# Altium footprint library LABLIB.PcbLib: 213 footprints (part 5 of 14)
Each footprint in its own frame and in the unit in brackets; x right, y up, seen from the top. Pads: shape width x height; smd on the part's side, far side on the other; paste and mask are expansions set on the pad; w line width, h text height; cw(c..) or ccw(c..) is an arc to the next point about the centre after c.
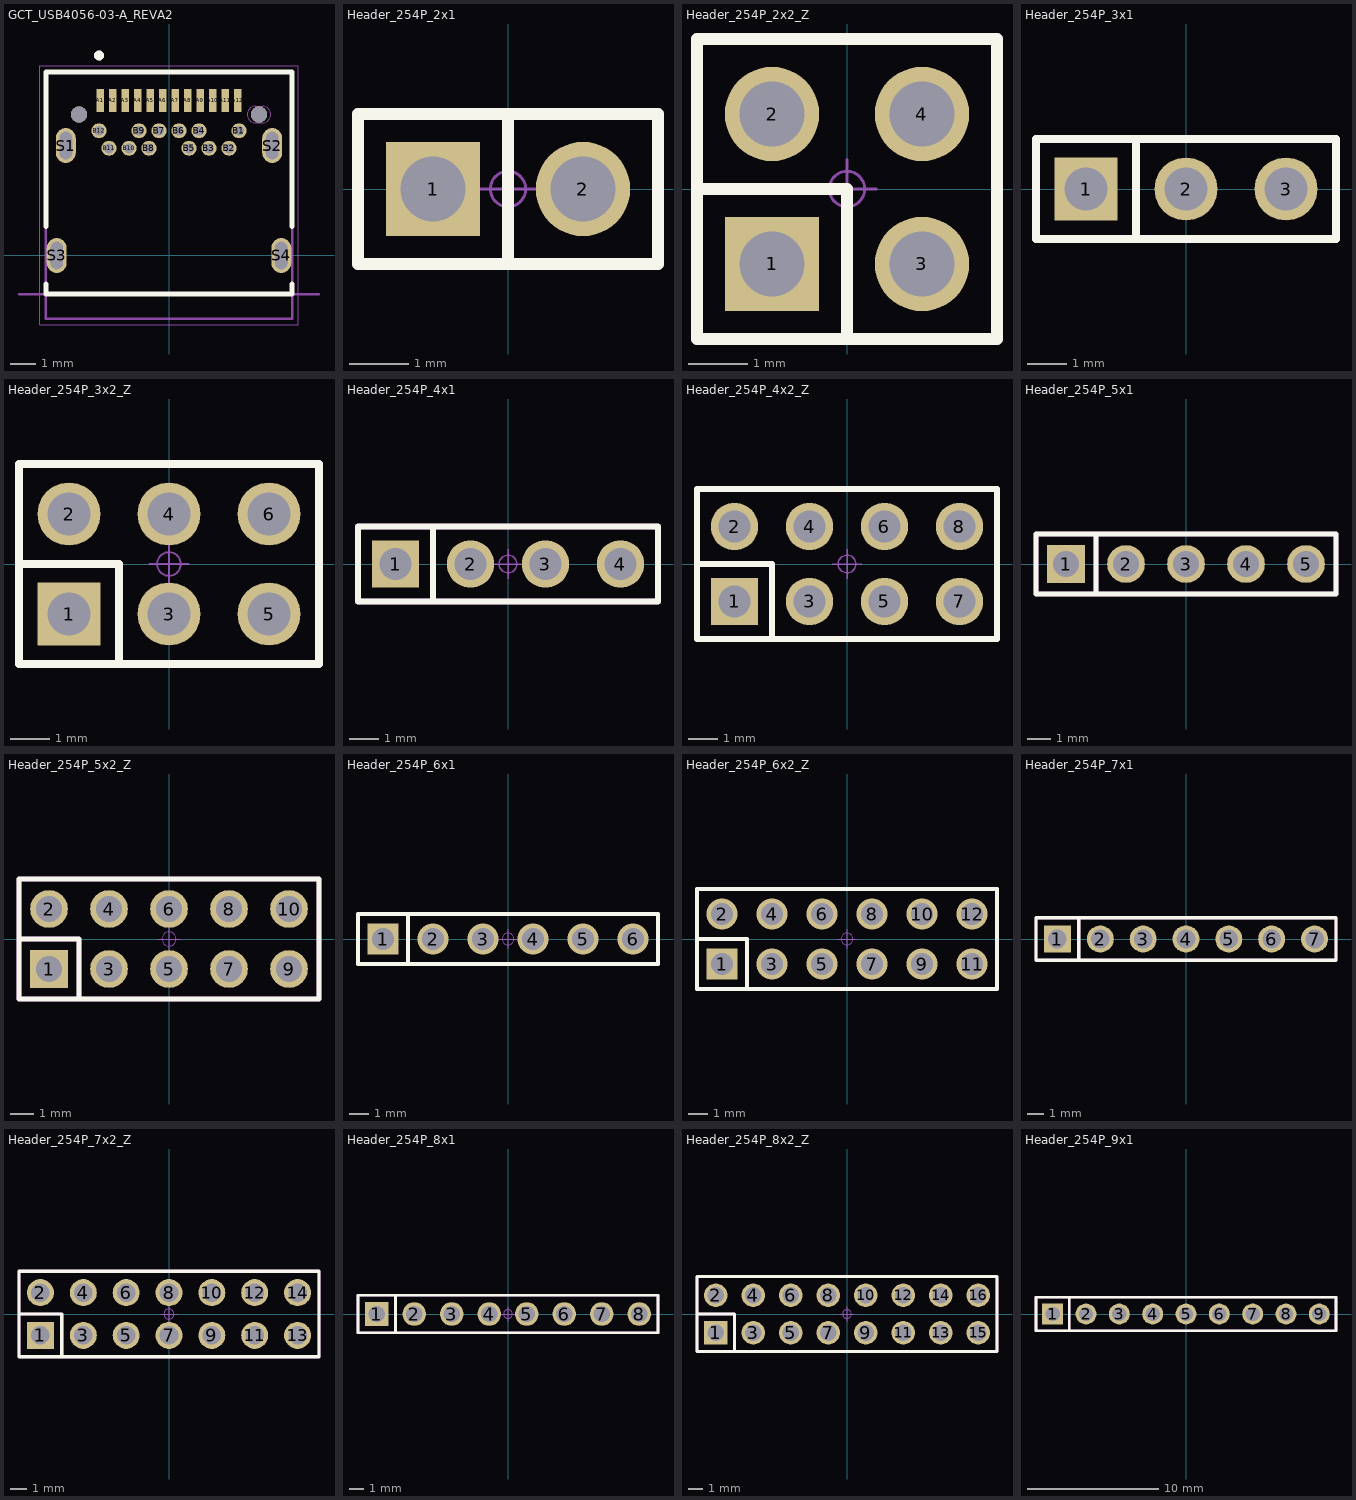
[diagram p4: the footprints below, top view; thin cyan lines are the x and y axes]

## GCT_USB4056-03-A_REVA2 [mm]
height 3.31
pads (30):
  rect 0.3x0.9 smd: A1(-2.75,6.2) A2(-2.25,6.2) A3(-1.75,6.2) A4(-1.25,6.2) A5(-0.75,6.2) A6(-0.25,6.2) A7(0.25,6.2) A8(0.75,6.2) A9(1.25,6.2) A10(1.75,6.2) A11(2.25,6.2) A12(2.75,6.2)
  round 0.6 hole 0.4: B1(2.8,4.99) B2(2.4,4.29) B3(1.6,4.29) B4(1.2,4.99) B5(0.8,4.29) B6(0.4,4.99) B7(-0.4,4.99) B8(-0.8,4.29) B9(-1.2,4.99) B10(-1.6,4.29) B11(-2.4,4.29) B12(-2.8,4.99)
  oval 0.8x1.4 hole 0.5 slot 1.1 at 90 deg: S1(-4.13,4.4) S2(4.13,4.4) S3(-4.49,0) S4(4.49,0)
  round 0.65 hole 0.65 unplated: ""(-3.6,5.64) ""(3.6,5.64)
Top Overlay:
  circle w0.2: c-2.8,8 r0.1
  lines w0.2: -4.925,-1.15 -4.925,-1.55 4.925,-1.55 4.925,-1.15 ; -4.925,1.15 -4.925,7.34 4.925,7.34 4.925,1.15
Top Solder:
  region: 3.772,6.064 3.794,6.063 3.816,6.06 3.838,6.056 3.86,6.051 3.881,6.044 3.902,6.037 3.923,6.028 3.943,6.019 3.962,6.008 3.981,5.996 4,5.984 4.017,5.97 4.034,5.956 4.051,5.941 4.066,5.924 4.08,5.907 4.094,5.89 4.106,5.871 4.118,5.853 4.129,5.833 4.138,5.813 4.147,5.792 4.154,5.771 4.161,5.75 4.166,5.728 4.17,5.706 4.173,5.684 4.174,5.662 4.175,5.64 4.174,5.618 4.173,5.596 4.17,5.574 4.166,5.552 4.161,5.53 4.154,5.509 4.147,5.488 4.138,5.467 4.129,5.447 4.118,5.428 4.106,5.409 4.094,5.39 4.08,5.373 4.066,5.356 4.051,5.339 4.034,5.324 4.017,5.31 4,5.296 3.981,5.284 3.962,5.272 3.943,5.261 3.923,5.252 3.902,5.243 3.881,5.236 3.86,5.229 3.838,5.224 3.816,5.22 3.794,5.217 3.772,5.216 3.75,5.215 3.45,5.215 3.428,5.216 3.406,5.217 3.384,5.22 3.362,5.224 3.34,5.229 3.319,5.236 3.298,5.243 3.277,5.252 3.257,5.261 3.237,5.272 3.219,5.284 3.2,5.296 3.183,5.31 3.166,5.324 3.149,5.339 3.134,5.356 3.12,5.373 3.106,5.39 3.094,5.409 3.082,5.428 3.071,5.447 3.062,5.467 3.053,5.488 3.046,5.509 3.039,5.53 3.034,5.552 3.03,5.574 3.027,5.596 3.026,5.618 3.025,5.64 3.026,5.662 3.027,5.684 3.03,5.706 3.034,5.728 3.039,5.75 3.046,5.771 3.053,5.792 3.062,5.813 3.071,5.833 3.082,5.853 3.094,5.871 3.106,5.89 3.12,5.907 3.134,5.924 3.149,5.941 3.166,5.956 3.183,5.97 3.2,5.984 3.219,5.996 3.237,6.008 3.257,6.019 3.277,6.028 3.298,6.037 3.319,6.044 3.34,6.051 3.362,6.056 3.384,6.06 3.406,6.063 3.428,6.064 3.45,6.065 3.75,6.065
Bottom Solder:
  region: 3.772,6.064 3.794,6.063 3.816,6.06 3.838,6.056 3.86,6.051 3.881,6.044 3.902,6.037 3.923,6.028 3.943,6.019 3.962,6.008 3.981,5.996 4,5.984 4.017,5.97 4.034,5.956 4.051,5.941 4.066,5.924 4.08,5.907 4.094,5.89 4.106,5.871 4.118,5.853 4.129,5.833 4.138,5.813 4.147,5.792 4.154,5.771 4.161,5.75 4.166,5.728 4.17,5.706 4.173,5.684 4.174,5.662 4.175,5.64 4.174,5.618 4.173,5.596 4.17,5.574 4.166,5.552 4.161,5.53 4.154,5.509 4.147,5.488 4.138,5.467 4.129,5.447 4.118,5.428 4.106,5.409 4.094,5.39 4.08,5.373 4.066,5.356 4.051,5.339 4.034,5.324 4.017,5.31 4,5.296 3.981,5.284 3.962,5.272 3.943,5.261 3.923,5.252 3.902,5.243 3.881,5.236 3.86,5.229 3.838,5.224 3.816,5.22 3.794,5.217 3.772,5.216 3.75,5.215 3.45,5.215 3.428,5.216 3.406,5.217 3.384,5.22 3.362,5.224 3.34,5.229 3.319,5.236 3.298,5.243 3.277,5.252 3.257,5.261 3.237,5.272 3.219,5.284 3.2,5.296 3.183,5.31 3.166,5.324 3.149,5.339 3.134,5.356 3.12,5.373 3.106,5.39 3.094,5.409 3.082,5.428 3.071,5.447 3.062,5.467 3.053,5.488 3.046,5.509 3.039,5.53 3.034,5.552 3.03,5.574 3.027,5.596 3.026,5.618 3.025,5.64 3.026,5.662 3.027,5.684 3.03,5.706 3.034,5.728 3.039,5.75 3.046,5.771 3.053,5.792 3.062,5.813 3.071,5.833 3.082,5.853 3.094,5.871 3.106,5.89 3.12,5.907 3.134,5.924 3.149,5.941 3.166,5.956 3.183,5.97 3.2,5.984 3.219,5.996 3.237,6.008 3.257,6.019 3.277,6.028 3.298,6.037 3.319,6.044 3.34,6.051 3.362,6.056 3.384,6.06 3.406,6.063 3.428,6.064 3.45,6.065 3.75,6.065
Mechanical 1:
  lines w0: 3.125,5.64 ccw(c3.45,5.64) 3.45,5.315 3.75,5.315 ccw(c3.75,5.64) 4.075,5.64 ccw(c3.75,5.64) 3.75,5.965 3.45,5.965 ccw(c3.45,5.64) 3.125,5.64
Mechanical 13:
  circle w0.2: c-2.8,8 r0.1
  lines w0.1: -6,-1.55 6,-1.55 ; -4.925,-2.53 -4.925,7.34 4.925,7.34 4.925,-2.53 -4.925,-2.53
  text "PCB Edge" at 5.5,-1.3 h0.81
Mechanical 15:
  lines w0.05: -5.175,-2.78 -5.175,7.59 5.175,7.59 5.175,-2.78 -5.175,-2.78
3D body "USB4056-03-A.STEP": height 3.26, standoff -1.2, extent -4.925,-2.53 4.925,7.34

## Header_254P_2x1 [mm]
pads (2):
  rect 1.6x1.6 hole 1.1: 1(-1.27,0)
  round 1.6 hole 1.1: 2(1.27,0)
Top Overlay:
  lines w0.2: 0,-1.27 0,1.27 ; -2.54,-1.27 2.54,-1.27 2.54,1.27 -2.54,1.27 -2.54,-1.27
Top Assembly:
  lines w0.2: 0,-1.27 0,1.27 ; -2.54,-1.27 2.54,-1.27 2.54,1.27 -2.54,1.27 -2.54,-1.27
  text "'.Designator'" at -3.952,-0.624 h1.5
Top Component Center:
  circle w0.05: c0,0 r0.3
  lines w0.05: -0.5,0 0.5,0 ; 0,-0.5 0,0.5

## Header_254P_2x2_Z [mm]
pads (4):
  rect 1.6x1.6 hole 1.1: 1(-1.27,-1.27)
  round 1.6 hole 1.1: 2(-1.27,1.27) 3(1.27,-1.27) 4(1.27,1.27)
Top Overlay:
  lines w0.2: -2.54,0 0,0 0,-2.54 ; -2.54,-2.54 -2.54,2.54 2.54,2.54 2.54,-2.54 -2.54,-2.54
Top Assembly:
  lines w0.2: -2.54,0 0,0 0,-2.54 ; -2.54,-2.54 -2.54,2.54 2.54,2.54 2.54,-2.54 -2.54,-2.54
  text "'.Designator'" at -3.952,-0.624 h1.5
Top Component Center:
  circle w0.05: c0,0 r0.3
  lines w0.05: -0.5,0 0.5,0 ; 0,-0.5 0,0.5

## Header_254P_3x1 [mm]
pads (3):
  rect 1.6x1.6 hole 1.1: 1(-2.54,0)
  round 1.6 hole 1.1: 2(0,0) 3(2.54,0)
Top Overlay:
  lines w0.2: -1.27,-1.27 -1.27,1.27 ; -3.81,-1.27 3.81,-1.27 3.81,1.27 -3.81,1.27 -3.81,-1.27
Top Assembly:
  lines w0.2: -1.27,-1.27 -1.27,1.27 ; -3.81,-1.27 -3.81,1.27 3.81,1.27 3.81,-1.27 -3.81,-1.27
  text "'.Designator'" at -3.952,-0.624 h1.5
Top Component Center:
  circle w0.05: c0,0 r0.3
  lines w0.05: -0.5,0 0.5,0 ; 0,-0.5 0,0.5

## Header_254P_3x2_Z [mm]
pads (6):
  rect 1.6x1.6 hole 1.1: 1(-2.54,-1.27)
  round 1.6 hole 1.1: 2(-2.54,1.27) 3(0,-1.27) 4(0,1.27) 5(2.54,-1.27) 6(2.54,1.27)
Top Overlay:
  lines w0.2: -3.81,0 -1.27,0 -1.27,-2.54 ; -3.81,-2.54 3.81,-2.54 3.81,2.54 -3.81,2.54 -3.81,-2.54
Top Assembly:
  lines w0.2: -3.81,0 -1.27,0 -1.27,-2.54 ; -3.81,-2.54 3.81,-2.54 3.81,2.54 -3.81,2.54 -3.81,-2.54
  text "'.Designator'" at -3.952,-0.624 h1.5
Top Component Center:
  circle w0.05: c0,0 r0.3
  lines w0.05: -0.5,0 0.5,0 ; 0,-0.5 0,0.5

## Header_254P_4x1 [mm]
pads (4):
  rect 1.6x1.6 hole 1.1: 1(-3.81,0)
  round 1.6 hole 1.1: 2(-1.27,0) 3(1.27,0) 4(3.81,0)
Top Overlay:
  lines w0.2: -2.54,-1.27 -2.54,1.27 ; -5.08,-1.27 -5.08,1.27 5.08,1.27 5.08,-1.27 -5.08,-1.27
Top Assembly:
  lines w0.2: -2.54,-1.27 -2.54,1.27 ; -5.08,-1.27 -5.08,1.27 5.08,1.27 5.08,-1.27 -5.08,-1.27
  text "'.Designator'" at -3.952,-0.624 h1.5
Top Component Center:
  circle w0.05: c0,0 r0.3
  lines w0.05: -0.5,0 0.5,0 ; 0,-0.5 0,0.5

## Header_254P_4x2_Z [mm]
pads (8):
  rect 1.6x1.6 hole 1.1: 1(-3.81,-1.27)
  round 1.6 hole 1.1: 2(-3.81,1.27) 3(-1.27,-1.27) 4(-1.27,1.27) 5(1.27,-1.27) 6(1.27,1.27) 7(3.81,-1.27) 8(3.81,1.27)
Top Overlay:
  lines w0.2: -5.08,0 -2.54,0 -2.54,-2.54 ; -5.08,-2.54 -5.08,2.54 5.08,2.54 5.08,-2.54 -5.08,-2.54
Top Assembly:
  lines w0.2: -5.08,0 -2.54,0 -2.54,-2.54 ; -5.08,-2.54 -5.08,2.54 5.08,2.54 5.08,-2.54 -5.08,-2.54
  text "'.Designator'" at -3.952,-0.624 h1.5
Top Component Center:
  circle w0.05: c0,0 r0.3
  lines w0.05: -0.5,0 0.5,0 ; 0,-0.5 0,0.5

## Header_254P_5x1 [mm]
pads (5):
  rect 1.6x1.6 hole 1.1: 1(-5.08,0)
  round 1.6 hole 1.1: 2(-2.54,0) 3(0,0) 4(2.54,0) 5(5.08,0)
Top Overlay:
  lines w0.2: -3.81,-1.27 -3.81,1.27 ; -6.35,-1.27 -6.35,1.27 6.35,1.27 6.35,-1.27 -6.35,-1.27
Top Assembly:
  lines w0.2: -3.81,-1.27 -3.81,1.27 ; -6.35,-1.27 -6.35,1.27 6.35,1.27 6.35,-1.27 -6.35,-1.27
  text "'.Designator'" at -3.952,-0.624 h1.5
Top Component Center:
  circle w0.05: c0,0 r0.3
  lines w0.05: -0.5,0 0.5,0 ; 0,-0.5 0,0.5

## Header_254P_5x2_Z [mm]
pads (10):
  rect 1.6x1.6 hole 1.1: 1(-5.08,-1.27)
  round 1.6 hole 1.1: 2(-5.08,1.27) 3(-2.54,-1.27) 4(-2.54,1.27) 5(0,-1.27) 6(0,1.27) 7(2.54,-1.27) 8(2.54,1.27) 9(5.08,-1.27) 10(5.08,1.27)
Top Overlay:
  lines w0.2: -6.35,0 -3.81,0 -3.81,-2.54 ; -6.35,-2.54 6.35,-2.54 6.35,2.54 -6.35,2.54 -6.35,-2.54
Top Assembly:
  lines w0.2: -6.35,0 -3.81,0 -3.81,-2.54 ; -6.35,-2.54 6.35,-2.54 6.35,2.54 -6.35,2.54 -6.35,-2.54
  text "'.Designator'" at -3.952,-0.624 h1.5
Top Component Center:
  circle w0.05: c0,0 r0.3
  lines w0.05: -0.5,0 0.5,0 ; 0,-0.5 0,0.5

## Header_254P_6x1 [mm]
pads (6):
  rect 1.6x1.6 hole 1.1: 1(-6.35,0)
  round 1.6 hole 1.1: 2(-3.81,0) 3(-1.27,0) 4(1.27,0) 5(3.81,0) 6(6.35,0)
Top Overlay:
  lines w0.2: -5.08,-1.27 -5.08,1.27 ; -7.62,-1.27 -7.62,1.27 7.62,1.27 7.62,-1.27 -7.62,-1.27
Top Assembly:
  lines w0.2: -5.08,-1.27 -5.08,1.27 ; -7.62,-1.27 -7.62,1.27 7.62,1.27 7.62,-1.27 -7.62,-1.27
  text "'.Designator'" at -3.952,-0.624 h1.5
Top Component Center:
  circle w0.05: c0,0 r0.3
  lines w0.05: -0.5,0 0.5,0 ; 0,-0.5 0,0.5

## Header_254P_6x2_Z [mm]
pads (12):
  rect 1.6x1.6 hole 1.1: 1(-6.35,-1.27)
  round 1.6 hole 1.1: 2(-6.35,1.27) 3(-3.81,-1.27) 4(-3.81,1.27) 5(-1.27,-1.27) 6(-1.27,1.27) 7(1.27,-1.27) 8(1.27,1.27) 9(3.81,-1.27) 10(3.81,1.27) 11(6.35,-1.27) 12(6.35,1.27)
Top Overlay:
  lines w0.2: -7.62,0 -5.08,0 -5.08,-2.54 ; -7.62,-2.54 -7.62,2.54 7.62,2.54 7.62,-2.54 -7.62,-2.54
Top Assembly:
  lines w0.2: -7.62,0 -5.08,0 -5.08,-2.54 ; -7.62,-2.54 -7.62,2.54 7.62,2.54 7.62,-2.54 -7.62,-2.54
  text "'.Designator'" at -3.952,-0.624 h1.5
Top Component Center:
  circle w0.05: c0,0 r0.3
  lines w0.05: -0.5,0 0.5,0 ; 0,-0.5 0,0.5

## Header_254P_7x1 [mm]
pads (7):
  rect 1.6x1.6 hole 1.1: 1(-7.62,0)
  round 1.6 hole 1.1: 2(-5.08,0) 3(-2.54,0) 4(0,0) 5(2.54,0) 6(5.08,0) 7(7.62,0)
Top Overlay:
  lines w0.2: -6.35,-1.27 -6.35,1.27 ; -8.89,-1.27 8.89,-1.27 8.89,1.27 -8.89,1.27 -8.89,-1.27
Top Assembly:
  lines w0.2: -6.35,-1.27 -6.35,1.27 ; -8.89,-1.27 8.89,-1.27 8.89,1.27 -8.89,1.27 -8.89,-1.27
  text "'.Designator'" at -3.952,-0.624 h1.5
Top Component Center:
  circle w0.05: c0,0 r0.3
  lines w0.05: -0.5,0 0.5,0 ; 0,-0.5 0,0.5

## Header_254P_7x2_Z [mm]
pads (14):
  rect 1.6x1.6 hole 1.1: 1(-7.62,-1.27)
  round 1.6 hole 1.1: 2(-7.62,1.27) 3(-5.08,-1.27) 4(-5.08,1.27) 5(-2.54,-1.27) 6(-2.54,1.27) 7(0,-1.27) 8(0,1.27) 9(2.54,-1.27) 10(2.54,1.27) 11(5.08,-1.27) 12(5.08,1.27) 13(7.62,-1.27) 14(7.62,1.27)
Top Overlay:
  lines w0.2: -8.89,0 -6.35,0 -6.35,-2.54 ; -8.89,-2.54 -8.89,2.54 8.89,2.54 8.89,-2.54 -8.89,-2.54
Top Assembly:
  lines w0.2: -8.89,0 -6.35,0 -6.35,-2.54 ; -8.89,-2.54 -8.89,2.54 6.35,2.54 8.89,2.54 8.89,-2.54 -8.89,-2.54
  text "'.Designator'" at -3.952,-0.624 h1.5
Top Component Center:
  circle w0.05: c0,0 r0.3
  lines w0.05: -0.5,0 0.5,0 ; 0,-0.5 0,0.5

## Header_254P_8x1 [mm]
pads (8):
  rect 1.6x1.6 hole 1.1: 1(-8.89,0)
  round 1.6 hole 1.1: 2(-6.35,0) 3(-3.81,0) 4(-1.27,0) 5(1.27,0) 6(3.81,0) 7(6.35,0) 8(8.89,0)
Top Overlay:
  lines w0.2: -7.62,-1.27 -7.62,1.27 ; -10.16,-1.27 10.16,-1.27 10.16,1.27 -10.16,1.27 -10.16,-1.27
Top Assembly:
  lines w0.125: 7.62,-1.27 10.16,-1.27
  lines w0.2: -7.62,-1.27 -7.62,1.27 ; 7.62,-1.27 10.16,-1.27 ; 7.62,-1.27 10.16,-1.27 ; 7.62,-1.27 -10.16,-1.27 -10.16,1.27 7.62,1.27 10.16,1.27 10.16,-1.27
  text "'.Designator'" at -3.952,-0.624 h1.5
Top Component Center:
  circle w0.05: c0,0 r0.3
  lines w0.05: -0.5,0 0.5,0 ; 0,-0.5 0,0.5

## Header_254P_8x2_Z [mm]
pads (16):
  rect 1.6x1.6 hole 1.1: 1(-8.89,-1.27)
  round 1.6 hole 1.1: 2(-8.89,1.27) 3(-6.35,-1.27) 4(-6.35,1.27) 5(-3.81,-1.27) 6(-3.81,1.27) 7(-1.27,-1.27) 8(-1.27,1.27) 9(1.27,-1.27) 10(1.27,1.27) 11(3.81,-1.27) 12(3.81,1.27) 13(6.35,-1.27) 14(6.35,1.27) 15(8.89,-1.27) 16(8.89,1.27)
Top Overlay:
  lines w0.2: -10.16,0 -7.62,0 -7.62,-2.54 ; -10.16,-2.54 -10.16,2.54 10.16,2.54 10.16,-2.54 -10.16,-2.54
Top Assembly:
  lines w0.125: 7.62,-2.54 10.16,-2.54
  lines w0.2: -10.16,0 -7.62,0 -7.62,-2.54 ; 7.62,-2.54 -10.16,-2.54 -10.16,2.54 5.08,2.54 10.16,2.54 10.16,-2.54 ; 7.62,-2.54 10.16,-2.54 ; 7.62,-2.54 10.16,-2.54
  text "'.Designator'" at -3.952,-0.624 h1.5
Top Component Center:
  circle w0.05: c0,0 r0.3
  lines w0.05: -0.5,0 0.5,0 ; 0,-0.5 0,0.5

## Header_254P_9x1 [mm]
pads (9):
  rect 1.6x1.6 hole 1.1: 1(-10.16,0)
  round 1.6 hole 1.1: 2(-7.62,0) 3(-5.08,0) 4(-2.54,0) 5(0,0) 6(2.54,0) 7(5.08,0) 8(7.62,0) 9(10.16,0)
Top Overlay:
  lines w0.2: -8.89,-1.27 -8.89,1.27 ; -11.43,-1.27 11.43,-1.27 11.43,1.27 -11.43,1.27 -11.43,-1.27
Top Assembly:
  lines w0.125: 6.35,-1.27 8.89,-1.27
  lines w0.2: -8.89,-1.27 -8.89,1.27 ; 8.89,-1.27 6.35,-1.27 ; 6.35,-1.27 11.43,-1.27 11.43,1.27 6.35,1.27 -11.43,1.27 -11.43,-1.27 6.35,-1.27
  text "'.Designator'" at -3.952,-0.624 h1.5
Top Component Center:
  circle w0.05: c0,0 r0.3
  lines w0.05: -0.5,0 0.5,0 ; 0,-0.5 0,0.5